# EAGLE library part TALONSRX_DATA_OUT (library jack_connector)
A Talon SRX data output port connection
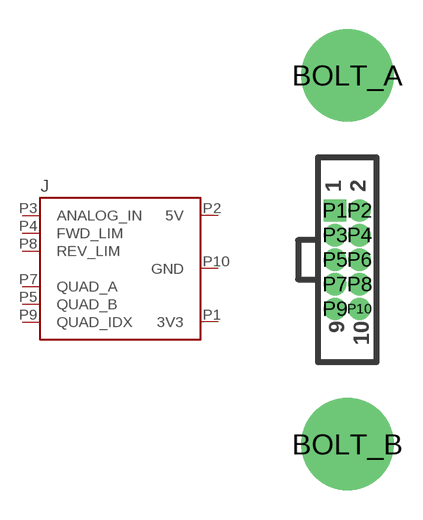
[diagram p0: symbol with the pads of TALONSRX_DATAPORT_BTM; footprint TALONSRX_DATAPORT_BTM]

Designator prefix J

## TALONSRX_DATA_OUT  [TALONSRX_DATAPORT_BTM]
P1  3V3
P2  5V
P3  ANALOG_IN
P4  FWD_LIM
P5  QUAD_B
P7  QUAD_A
P8  REV_LIM
P9  QUAD_IDX
P10  GND

## Footprint TALONSRX_DATAPORT_BTM (pad centres in mm)
drill 2.997 pad 4.775: BOLT_A 0,9.525; BOLT_B 0,-9.525
drill 0.65 pad 1.016 square: P1 -0.635,2.54
drill 0.65 pad 1.016: P2 0.635,2.54; P3 -0.635,1.27; P4 0.635,1.27; P5 -0.635,0; P6 0.635,0; P7 -0.635,-1.27; P8 0.635,-1.27; P9 -0.635,-2.54; P10 0.635,-2.54